# Altium footprint library Game Boy.PCBLIB: 21 footprints (part 1 of 2)
Each footprint in its own frame and in the unit in brackets; x right, y up, seen from the top. Pads: shape width x height; smd on the part's side, far side on the other; paste and mask are expansions set on the pad; w line width, h text height; cw(c..) or ccw(c..) is an arc to the next point about the centre after c.
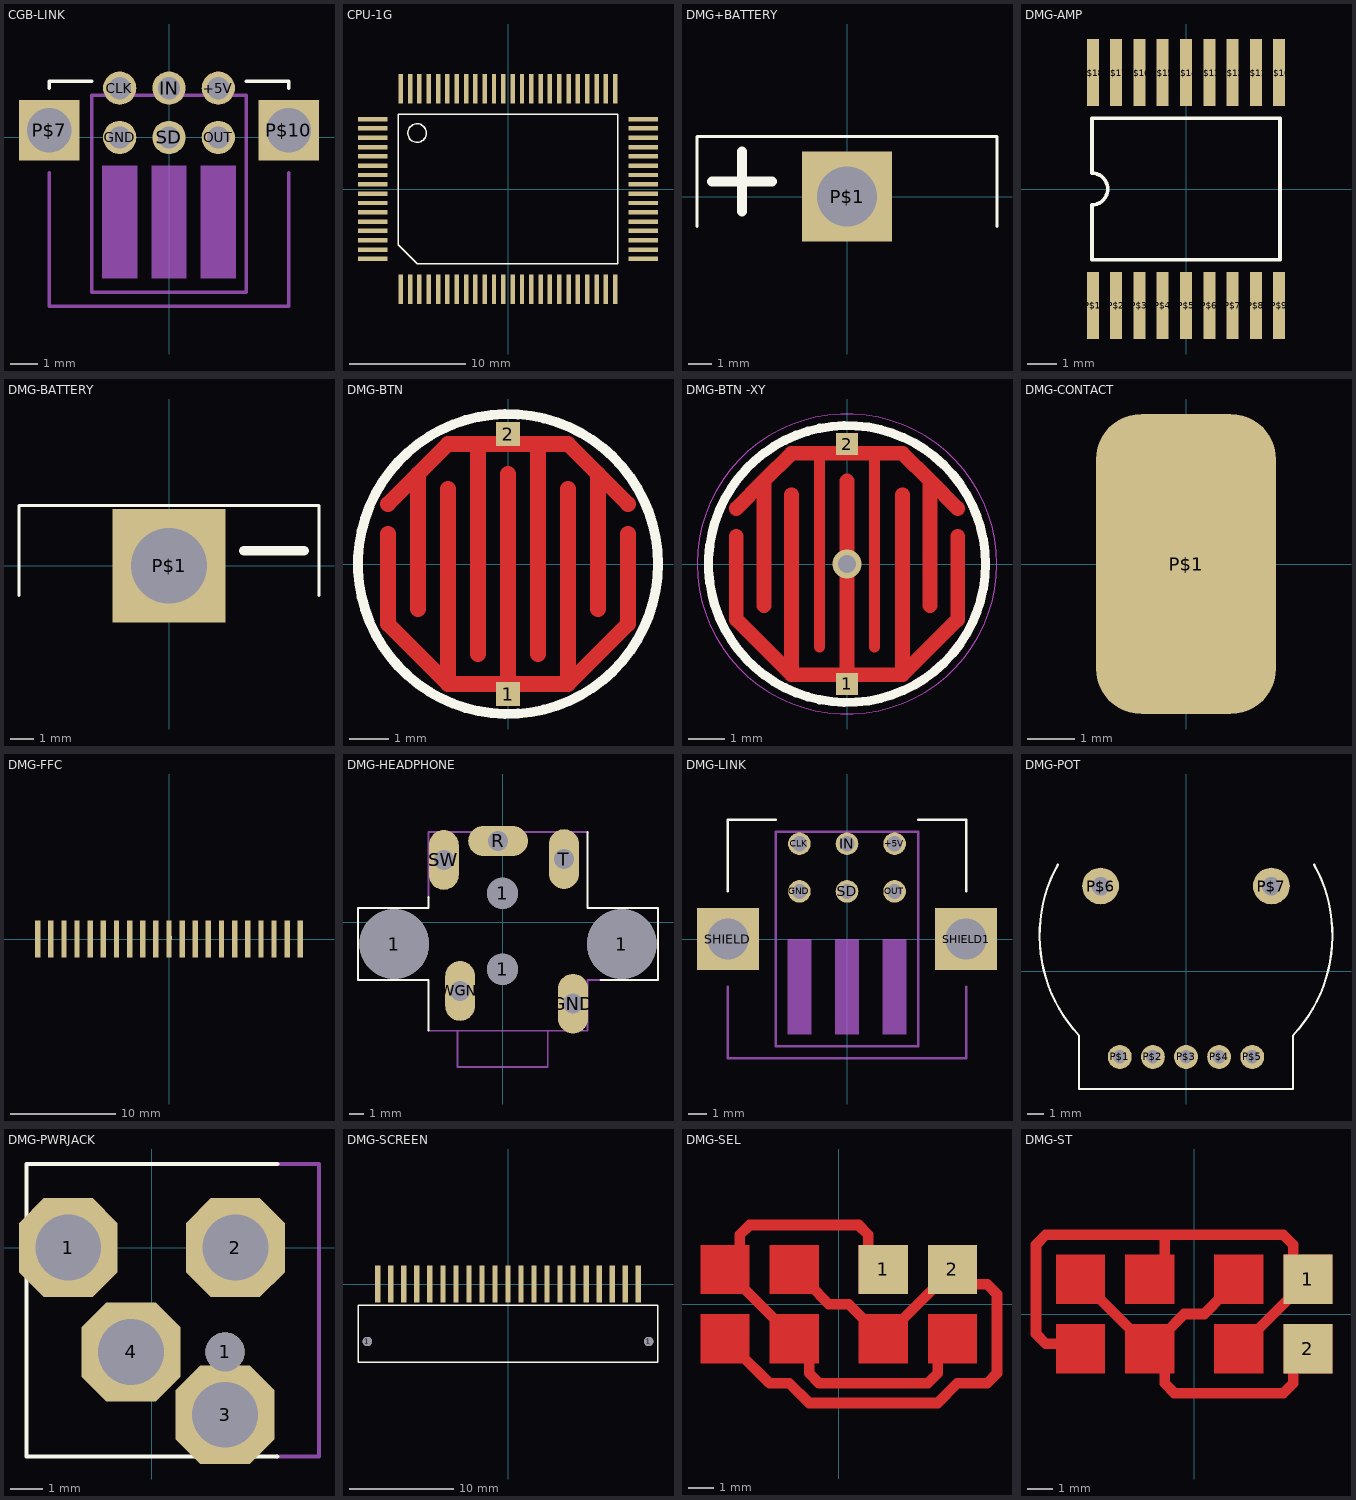
[diagram p0: the footprints below, top view; thin cyan lines are the x and y axes]

## CGB-LINK [mil]
pads (8):
  round 47.25 hole 31.5: +5V(70,70) CLK(-70,70) GND(-70,0) IN(0,70) OUT(70,0) SD(0,0)
  rect 86x86 hole 62.99: P$7(-170,10) P$10(170,10)
Top Overlay:
  lines w5: -170,70 -170,80 -110,80 ; 110,80 170,80 170,70
Mechanical 16:
  rectangle: 45,-200 95,-40
  rectangle: -25,-200 25,-40
  rectangle: -95,-200 -45,-40
  lines w5: -170,-50 -170,-240 170,-240 170,-50 ; -110,-220 -110,60 110,60 110,-220 -110,-220

## CPU-1G [mil]
pads (80):
  rect 15x100 smd: P$1(-362.2,-338.58) P$2(-330.71,-338.58) P$3(-299.21,-338.58) P$4(-267.72,-338.58) P$5(-236.22,-338.58) P$6(-204.72,-338.58) P$7(-173.23,-338.58) P$8(-141.73,-338.58) P$9(-110.24,-338.58) P$10(-78.74,-338.58) P$11(-47.24,-338.58) P$12(-15.75,-338.58) P$13(15.75,-338.58) P$14(47.24,-338.58) P$15(78.74,-338.58) P$16(110.24,-338.58) P$17(141.73,-338.58) P$18(173.23,-338.58) P$19(204.72,-338.58) P$20(236.22,-338.58) P$21(267.72,-338.58) P$22(299.21,-338.58) P$23(330.71,-338.58) P$24(362.2,-338.58) P$41(362.2,338.58) P$42(330.71,338.58) P$43(299.21,338.58) P$44(267.72,338.58) P$45(236.22,338.58) P$46(204.72,338.58) P$47(173.23,338.58) P$48(141.73,338.58) P$49(110.24,338.58) P$50(78.74,338.58) P$51(47.24,338.58) P$52(15.75,338.58) P$53(-15.75,338.58) P$54(-47.24,338.58) P$55(-78.74,338.58) P$56(-110.24,338.58) P$57(-141.73,338.58) P$58(-173.23,338.58) P$59(-204.72,338.58) P$60(-236.22,338.58) P$61(-267.72,338.58) P$62(-299.21,338.58) P$63(-330.71,338.58) P$64(-362.2,338.58)
  rect 100x15 smd: P$25(456.69,-236.22) P$26(456.69,-204.72) P$27(456.69,-173.23) P$28(456.69,-141.73) P$29(456.69,-110.24) P$30(456.69,-78.74) P$31(456.69,-47.24) P$32(456.69,-15.75) P$33(456.69,15.75) P$34(456.69,47.24) P$35(456.69,78.74) P$36(456.69,110.24) P$37(456.69,141.73) P$38(456.69,173.23) P$39(456.69,204.72) P$40(456.69,236.22) P$65(-456.69,236.22) P$66(-456.69,204.72) P$67(-456.69,173.23) P$68(-456.69,141.73) P$69(-456.69,110.24) P$70(-456.69,78.74) P$71(-456.69,47.24) P$72(-456.69,15.75) P$73(-456.69,-15.75) P$74(-456.69,-47.24) P$75(-456.69,-78.74) P$76(-456.69,-110.24) P$77(-456.69,-141.73) P$78(-456.69,-173.23) P$79(-456.69,-204.72) P$80(-456.69,-236.22)
Top Overlay:
  circle w5: c-307.09,188.98 r31.5
  lines w5: -370.08,-188.98 -370.08,251.97 370.08,251.97 370.08,-251.97 -307.09,-251.97 -370.08,-188.98
Mechanical 16:
  text "24" at 393.7,-362.2 h42.5
  text "1" at -393.7,-314.96 h42.5

## DMG+BATTERY [mil]
pads (1):
  rect 150x150 hole 100: P$1(0,0)
Top Overlay:
  lines w5: -250,-50 -250,100 250,100 250,-50
  lines w16: -225,25 -125,25 ; -175,-25 -175,75

## DMG-AMP [mil]
pads (18):
  rect 16x90 smd: P$1(-125,-156.25) P$2(-93.75,-156.25) P$3(-62.5,-156.25) P$4(-31.25,-156.25) P$5(0,-156.25) P$6(31.25,-156.25) P$7(62.5,-156.25) P$8(93.75,-156.25) P$9(125,-156.25) P$10(125,156.25) P$11(93.75,156.25) P$12(62.5,156.25) P$13(31.25,156.25) P$14(0,156.25) P$15(-31.25,156.25) P$16(-62.5,156.25) P$17(-93.75,156.25) P$18(-125,156.25)
Top Overlay:
  lines w5: -126.25,-95 -126.25,-21.25 ccw(c-126.25,0) -126.25,21.25 -126.25,95 126.25,95 126.25,-95 -126.25,-95

## DMG-BATTERY [mil]
pads (1):
  rect 188.97x188.97 hole 125.98: P$1(0,0)
Top Overlay:
  lines w5: -250,-50 -250,100 250,100 250,-50
  lines w16: 125,25 225,25

## DMG-BTN [mm]
pads (2):
  rect 0.6x0.6 smd: 1(0,-3.302) 2(0,3.302)
Top Layer:
  lines w0.406: -3.048,0.762 -3.048,-1.524 -1.524,-3.048 ; -3.048,1.524 -2.286,2.286 ; -2.286,-1.143 -2.286,2.286 ; -1.524,1.905 -1.524,-3.048 ; -0.762,-2.286 -0.762,3.048 ; 0,2.286 0,-3.048 ; 0.762,-2.286 0.762,3.048 ; 1.524,1.905 1.524,-3.048 ; 2.286,-1.143 2.286,2.286 ; 3.048,0.762 3.048,-1.524 1.524,-3.048 ; 3.048,1.524 2.286,2.286 ; -2.286,2.286 -1.524,3.048 -0.762,3.048 ; -1.524,-3.048 0,-3.048 ; -0.762,3.048 0.762,3.048 ; 0,-3.048 1.524,-3.048 ; 0.762,3.048 1.524,3.048 2.286,2.286
Top Overlay:
  circle w0.25: c0,0 r3.81

## DMG-BTN -XY [mm]
pads (2):
  rect 0.6x0.6 smd: 1(0,-3.302) 2(0,3.302)
via 0,0 diameter 0.8 hole 0.5
Top Layer:
  lines w0.3: -0.762,-2.286 -0.762,3.048 ; 0.762,-2.286 0.762,3.048
  lines w0.406: -3.048,0.762 -3.048,-1.524 -1.524,-3.048 ; -3.048,1.524 -2.286,2.286 ; -2.286,-1.143 -2.286,2.286 ; -1.524,1.905 -1.524,-3.048 ; 0,2.286 0,-3.048 ; 1.524,1.905 1.524,-3.048 ; 2.286,-1.143 2.286,2.286 ; 3.048,0.762 3.048,-1.524 1.524,-3.048 ; 3.048,1.524 2.286,2.286 ; -2.286,2.286 -1.524,3.048 -0.762,3.048 0.762,3.048 1.524,3.048 2.286,2.286 ; -1.524,-3.048 0,-3.048 ; 0,-3.048 1.524,-3.048
Top Overlay:
  circle w0.25: c0,0 r3.81
Mechanical 8 keep-out:
  circle w0: c0,0 r4.127

## DMG-CONTACT [mil]
pads (1):
  rrect50% 150x250 smd: P$1(0,0)

## DMG-FFC [mil]
pads (21):
  rect 20x140 smd: P$1(-492.13,0) P$2(-442.91,0) P$3(-393.7,0) P$4(-344.49,0) P$5(-295.28,0) P$6(-246.06,0) P$7(-196.85,0) P$8(-147.64,0) P$9(-98.43,0) P$10(-49.21,0) P$11(0,0) P$12(49.21,0) P$13(98.43,0) P$14(147.64,0) P$15(196.85,0) P$16(246.06,0) P$17(295.28,0) P$18(344.49,0) P$19(393.7,0) P$20(442.91,0) P$21(492.13,0)
Top Overlay:
  region: 0,0 10,0 10,10 0,10
  region: 0,0 10,0 10,10 0,10

## DMG-HEADPHONE [mil]
pads (9):
  round 193 hole 193: 1(-300,-60) 1(330,-60)
  round 86.61 hole 86.61: 1(0,-130) 1(0,80)
  oval 82.68x165.36 hole 55.12: GND(195,-225) SW(-162.5,172.5) SWGND(-117.5,-190) T(170,175)
  oval 165.36x82.68 hole 55.12: R(-12.5,225)
Top Overlay:
  lines w5: -205,-300 -205,-160 -400,-160 -400,40 -205,40 -205,70 ; 235,250 235,40 430,40 430,-160 270,-160
Mechanical 16:
  lines w5: -205,-300 -125,-300 ; -205,70 -205,250 235,250 ; 270,-160 235,-160 235,-300 125,-300 ; -125,-300 -125,-400 125,-400 125,-300 ; -125,-300 125,-300

## DMG-LINK [mil]
pads (8):
  round 47.25 hole 31.5: +5V(100,200) CLK(-100,200) GND(-100,100) IN(0,200) OUT(100,100) SD(0,100)
  rect 129.91x129.91 hole 86.61: SHIELD(-250,0) SHIELD1(250,0)
Top Overlay:
  lines w5: -250,100 -250,250 -150,250 ; 150,250 250,250 250,100
Mechanical 16:
  region: 125,0 75,0 75,-200 125,-200
  region: 25,0 -25,0 -25,-200 25,-200
  region: -75,0 -125,0 -125,-200 -75,-200
  lines w5: -250,-100 -250,-250 250,-250 250,-100 ; -150,-225 -150,225 150,225 150,-225 -150,-225
  text "6" at -106.25,56.25 h37.2
  text "5" at -106.25,231.25 h37.2
  text "4" at -6.25,56.25 h37.2
  text "3" at -6.25,231.25 h37.2
  text "2" at 93.75,56.25 h37.2
  text "1" at 93.75,231.25 h37.2

## DMG-POT [mil]
pads (7):
  round 56 hole 31.5: P$1(-155,-200) P$2(-77.5,-200) P$3(0,-200) P$4(77.5,-200) P$5(155,-200)
  round 86 hole 43.31: P$6(-200,200) P$7(200,200)
Top Overlay:
  lines w5: -300,250 ccw(c0,84.38) -250,-150 -250,-275 250,-275 250,-150 ccw(c0,84.38) 300,250

## DMG-PWRJACK [mm]
pads (5):
  oct 3x3 hole 2: 1(-2.54,0) 2(2.54,0) 3(2.222,-5.08) 4(-0.635,-3.175)
  round 1.2 hole 1.2: 1(2.222,-3.175)
Top Overlay:
  lines w0.127: 3.81,-6.35 -3.81,-6.35 -3.81,2.54 3.81,2.54
Mechanical 16:
  lines w0.127: 3.81,-6.35 5.08,-6.35 5.08,2.54 3.81,2.54
  text "4" at -1.27,-5.08 h1.08
  text "3" at 3.81,-5.08 h1.08
  text "2" at 3.81,1.27 h1.08
  text "1" at -1.27,1.27 h1.08

## DMG-SCREEN [mil]
pads (23):
  round 35.43 hole 35.43: 1(-531.5,-216.54) 1(531.5,-216.54)
  rect 20x140 smd: P$1(-492.13,0) P$2(-442.91,0) P$3(-393.7,0) P$4(-344.49,0) P$5(-295.28,0) P$6(-246.06,0) P$7(-196.85,0) P$8(-147.64,0) P$9(-98.43,0) P$10(-49.21,0) P$11(0,0) P$12(49.21,0) P$13(98.43,0) P$14(147.64,0) P$15(196.85,0) P$16(246.06,0) P$17(295.28,0) P$18(344.49,0) P$19(393.7,0) P$20(442.91,0) P$21(492.13,0)
Top Overlay:
  lines w5: -566.93,-295.28 -566.93,-78.74 566.93,-78.74 566.93,-295.28 -566.93,-295.28

## DMG-SEL [mil]
pads (2):
  rect 75x75 smd: 1(67.5,52.5) 2(172.5,52.5)
Top Layer:
  rectangle: 30,-90 105,-15
  rectangle: 135,-90 210,-15
  rectangle: 135,15 210,90
  rectangle: 30,15 105,90
  rectangle: -105,15 -30,90
  rectangle: -105,-90 -30,-15
  rectangle: -210,-90 -135,-15
  rectangle: -210,15 -135,90
  lines w16: -150,-75 -105,-120 -75,-120 -45,-150 150,-150 180,-120 225,-120 240,-105 240,15 225,30 195,30 ; -150,30 -90,-30 ; -150,75 -150,105 -135,120 30,120 45,105 45,75 ; -45,-75 -45,-105 -30,-120 135,-120 150,-105 150,-75 ; -45,30 -15,0 15,0 45,-30 ; 90,-30 150,30
Top Solder:
  rectangle: 25,-95 215,95
  rectangle: -215,-95 -25,95

## DMG-ST [mil]
pads (2):
  rect 75x75 smd: 1(172.5,52.5) 2(172.5,-52.5)
Top Layer:
  rectangle: -210,15 -135,90
  rectangle: -210,-90 -135,-15
  rectangle: -105,-90 -30,-15
  rectangle: -105,15 -30,90
  rectangle: 30,15 105,90
  rectangle: 135,15 210,90
  rectangle: 135,-90 210,-15
  rectangle: 30,-90 105,-15
  lines w16: -210,-45 -225,-45 -240,-30 -240,105 -225,120 -45,120 ; -150,30 -90,-30 ; -45,-75 -45,-105 -30,-120 135,-120 150,-105 150,-75 ; -45,-30 -15,0 15,0 45,30 ; -45,75 -45,120 ; 90,-30 150,30 ; 150,75 150,105 135,120 -45,120
Top Solder:
  rectangle: -215,-95 -25,95
  rectangle: 25,-95 215,95